# EAGLE library part 74AC11PW (library EW_IC_74_Logic)
AND 3 input. Category: Gates Manufacturer: Generic
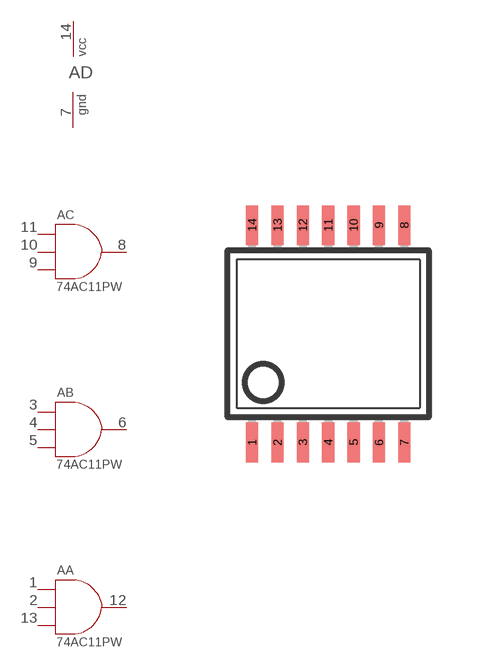
[diagram p300: symbol with the pads of TSSOP14; footprint TSSOP14]

Designator prefix A; gates A=AND_3 B=AND_3 C=AND_3 D=PWRN

## 74AC11PW  [TSSOP14]
1  A:A  pwr
2  A:B  pwr
3  B:A  pwr
4  B:B  pwr
5  B:C  pwr
6  B:Y  pwr
7  D:GND  pwr
8  C:Y  pwr
9  C:C  pwr
10  C:B  pwr
11  C:A  pwr
12  A:Y  pwr
13  A:C  pwr
14  D:VCC  pwr

## Footprint TSSOP14 (pad centres in mm)
Thin Shrink Small Outline Plastic 14
smd 0.305 x 0.991: 1 -1.905,-2.718; 2 -1.27,-2.718; 3 -0.635,-2.718; 4 0,-2.718; 5 0.635,-2.718; 6 1.27,-2.718; 7 1.905,-2.718; 8 1.905,2.718; 9 1.27,2.718; 10 0.635,2.718; 11 0,2.718; 12 -0.635,2.718; 13 -1.27,2.718; 14 -1.905,2.718